# Altium footprint library Motor Controller.PcbLib: 24 footprints (part 1 of 2)
Each footprint in its own frame and in the unit in brackets; x right, y up, seen from the top. Pads: shape width x height; smd on the part's side, far side on the other; paste and mask are expansions set on the pad; w line width, h text height; cw(c..) or ccw(c..) is an arc to the next point about the centre after c.
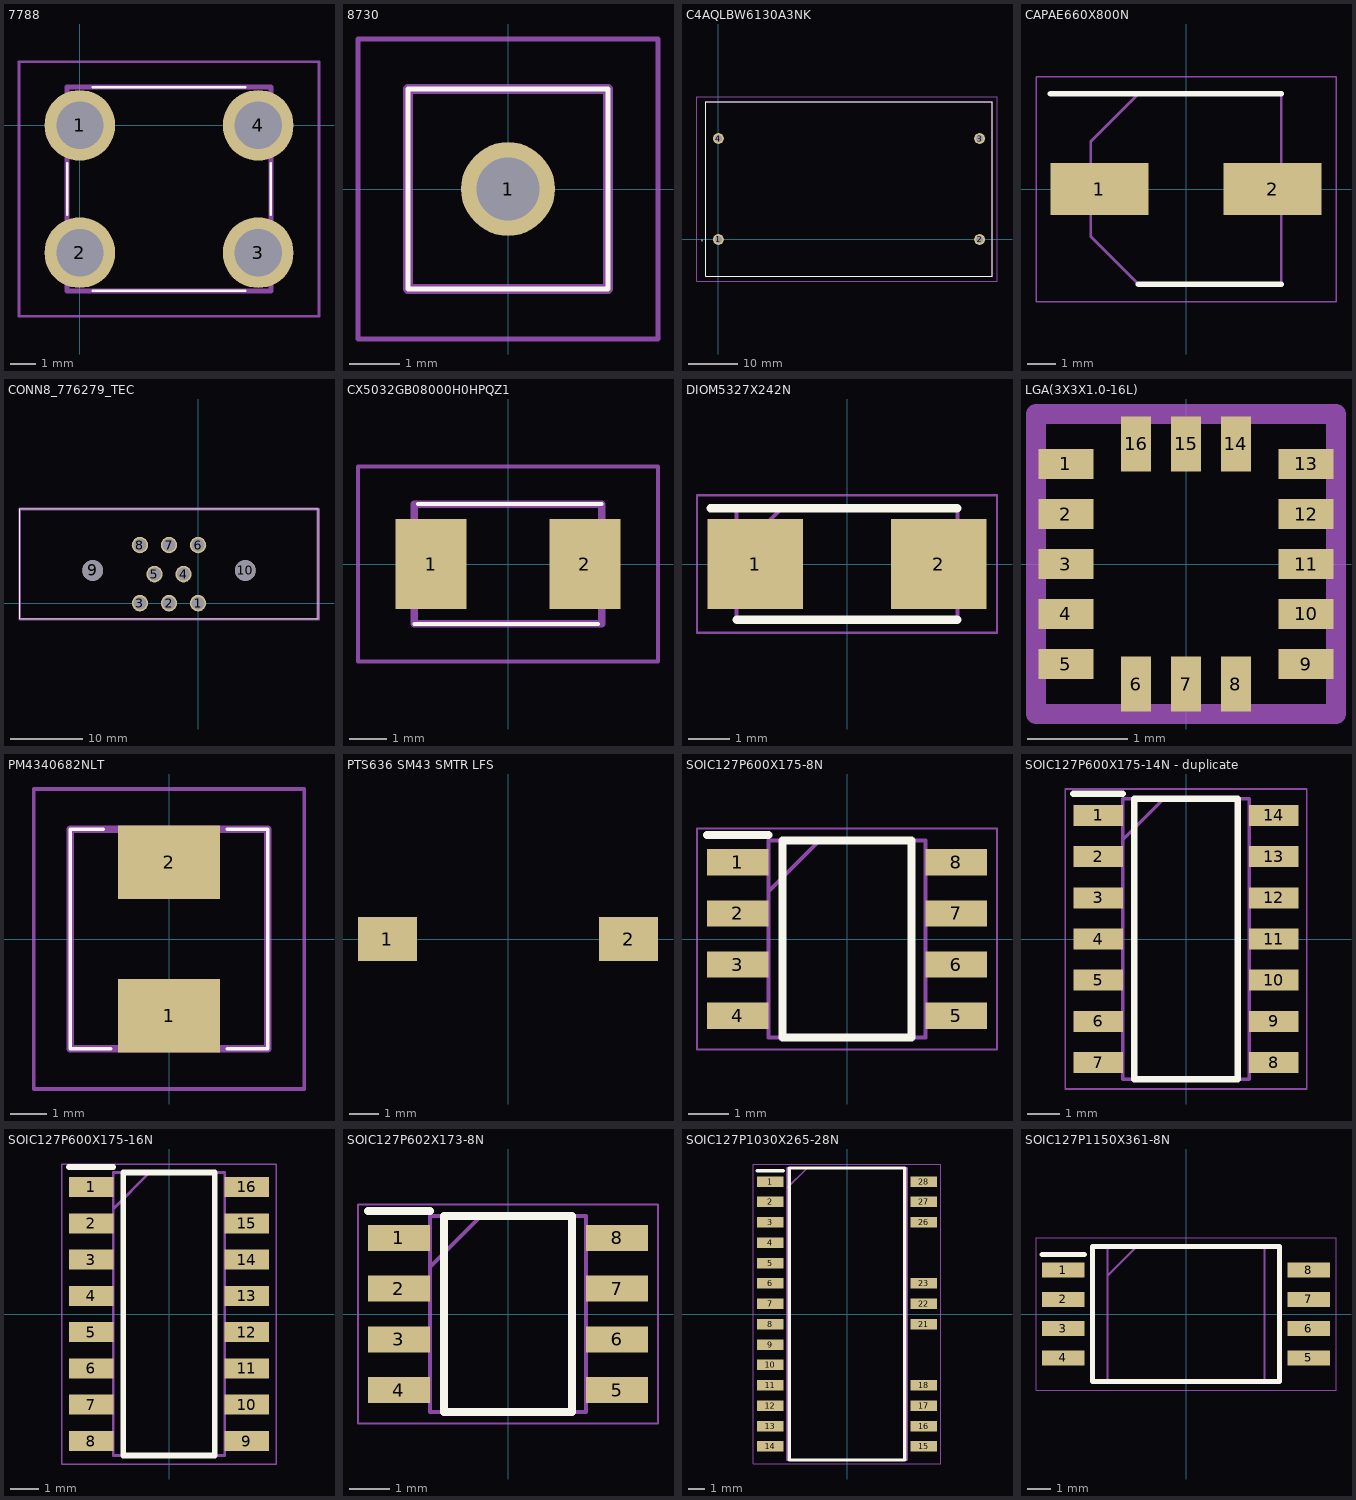
[diagram p0: the footprints below, top view; thin cyan lines are the x and y axes]

## 7788 [mm]
pads (4):
  round 2.775 hole 1.85: 1(0,0) 2(0,-5) 3(7,-5) 4(7,0)
Top Overlay:
  lines w0.1: -0.5,-3.5 -0.5,-1.5 ; 0.5,-6.5 6.5,-6.5 ; 0.5,1.5 6.5,1.5 ; 7.5,-3.5 7.5,-1.5
Mechanical 13:
  lines w0.2: -0.5,-6.5 -0.5,1.5 7.5,1.5 7.5,-6.5 -0.5,-6.5
Mechanical 15:
  lines w0.1: -2.388,-7.5 -2.388,2.5 9.387,2.5 9.387,-7.5 -2.388,-7.5
3D body "7788.stp": height 6.55, standoff -5, extent -0.818,-6.5 7.825,1.5

## 8730 [mm]
pads (1):
  round 1.875 hole 1.25: 1(0,0)
Top Overlay:
  lines w0.1: -2,-2 2,-2 2,2 -2,2 -2,-2
Mechanical 13:
  lines w0.2: -2,-2 2,-2 2,2 -2,2 -2,-2
Mechanical 15:
  lines w0.1: -3,-3 3,-3 3,3 -3,3 -3,-3
3D body "8730.stp": height 4.98, standoff -5, extent -2,-2 2,2

## C4AQLBW6130A3NK [mm]
pads (4):
  round 2.175 hole 1.45: 1(0,0) 2(52.5,0) 3(52.5,20.3) 4(0,20.3)
Top Overlay:
  lines w0.1: -2.5,-7.35 -2.5,27.65 55,27.65 55,-7.35 -2.5,-7.35
  lines w0.2: -3.25,-0.25 ccw(c-3.25,-0.2) -3.25,-0.15 ; -3.25,-0.25 cw(c-3.25,-0.2) -3.25,-0.15 ; -3.25,-0.25 ccw(c-3.25,-0.2) -3.25,-0.15
Mechanical 13:
  lines w0.2: -2.5,-7.35 -2.5,27.65 55,27.65 55,-7.35 -2.5,-7.35
Mechanical 15:
  lines w0.1: -4.3,-8.35 -4.3,28.65 56,28.65 56,-8.35 -4.3,-8.35
3D body "C4AQCBW5750A3NJ.stp": height 50.4, standoff -5, extent -2.5,-7.35 55,27.65

## CAPAE660X800N [mm]
pads (2):
  rect 3.4x1.8 smd: 1(-3,0) 2(3,0)
Top Overlay:
  lines w0.2: -4.7,3.3 3.3,3.3 ; -1.65,-3.3 3.3,-3.3
Mechanical 13:
  lines w0.1: -3.3,-1.65 -3.3,1.65 -1.65,3.3 3.3,3.3 3.3,-3.3 -1.65,-3.3 -3.3,-1.65
Mechanical 15:
  lines w0.05: -5.2,-3.9 5.2,-3.9 5.2,3.9 -5.2,3.9 -5.2,-3.9
3D body "EEE-1EA101XP.stp": height 8, standoff 0, extent -3.9,-3.4 3.9,3.4

## CONN8_776279_TEC [mil]
pads (10):
  round 89 hole 69 mask+0: 1(0,0) 2(-157.48,0) 3(-314.96,0) 4(-78.74,157.48) 5(-236.22,157.48) 6(0,314.96) 7(-157.48,314.96) 8(-314.96,314.96)
  round 112 hole 112: 9(-570.87,177.17) 10(255.91,177.17)
Top Overlay:
  lines w6: -965.48,-85.43 -965.48,511.57 650.52,511.57 650.52,-85.43 -965.48,-85.43
Mechanical 13:
  lines w1: -617.98,506.57 303.02,506.57 ; -960.48,-80.43 -960.48,506.57 -558.98,506.57 244.02,506.57 645.52,506.57 645.52,-80.43 -960.48,-80.43
Mechanical 15:
  lines w6: -970.48,-90.43 655.52,-90.43
  lines w7: -970.48,514.52 -970,515 -565,515 245,515 651.04,515 655.52,510.52 655.52,-90.43 ; -970.24,-90.19 -970.24,514.76
3D body: height 10, standoff 0, extent 0,0 10,10

## CX5032GB08000H0HPQZ1 [mm]
pads (2):
  rect 1.9x2.4 smd: 1(-2.05,0) 2(2.05,0)
Top Overlay:
  lines w0.1: -2.5,-1.6 2.4,-1.6 ; -2.4,1.6 2.5,1.6
Mechanical 13:
  lines w0.2: -2.5,-1.6 2.5,-1.6 2.5,1.6 -2.5,1.6 -2.5,-1.6
Mechanical 15:
  lines w0.1: -4,-2.6 4,-2.6 4,2.6 -4,2.6 -4,-2.6
3D body "CX5032GB08000H0HPQZ1.stp": height 0, standoff 0, extent 0,0 0,0

## DIOM5327X242N [mm]
pads (2):
  rect 2.3x2.15 smd: 1(-2.2,0) 2(2.2,0)
Top Overlay:
  lines w0.2: -3.275,1.335 2.648,1.335 ; -2.648,-1.335 2.648,-1.335
Mechanical 13:
  lines w0.1: -2.648,0.26 -1.572,1.335 ; -2.648,-1.335 -2.648,1.335 2.648,1.335 2.648,-1.335 -2.648,-1.335
Mechanical 15:
  lines w0.05: -3.6,-1.65 -3.6,1.65 3.6,1.65 3.6,-1.65 -3.6,-1.65
3D body "1N4007.stp": height 2.42, standoff 0, extent -2.648,-1.335 2.648,1.335

## LGA(3X3X1.0-16L) [mm]
pads (16):
  rect 0.55x0.3 smd: 1(-1.2,1) 2(-1.2,0.5) 3(-1.2,0) 4(-1.2,-0.5) 5(-1.2,-1) 9(1.2,-1) 10(1.2,-0.5) 11(1.2,0) 12(1.2,0.5) 13(1.2,1)
  rect 0.3x0.55 smd: 6(-0.5,-1.2) 7(0,-1.2) 8(0.5,-1.2) 14(0.5,1.2) 15(0,1.2) 16(-0.5,1.2)
Mechanical 13:
  lines w0.2: -1.5,-1.5 1.5,-1.5 1.5,1.5 -1.5,1.5 -1.5,-1.5

## PM4340682NLT [mm]
pads (2):
  rect 2.8x2 smd: 1(0,-2.1) 2(0,2.1)
Top Overlay:
  lines w0.1: -1.8,3 -2.7,3 -2.7,-3 -1.6,-3 ; 1.6,-3 2.7,-3 2.7,3 1.6,3
Mechanical 13:
  lines w0.2: -2.7,-3 -2.7,3 2.7,3 2.7,-3 -2.7,-3
Mechanical 15:
  lines w0.1: -3.7,-4.1 -3.7,4.1 3.7,4.1 3.7,-4.1 -3.7,-4.1
3D body "PM4340.682NLT.stp": height 2.1, standoff 0, extent -2.7,-3 2.7,3

## PTS636 SM43 SMTR LFS [mm]
pads (2):
  rect 2x1.5 smd: 1(-4.1,0) 2(4.1,0)
3D body: height 0.25, standoff -2, extent 2.95,2.85 2.95,2.85
3D body: height 4.3, standoff 0, extent -3,-1.75 3,1.75

## SOIC127P600X175-8N [mm]
pads (8):
  rect 1.525x0.65 smd: 1(-2.712,1.905) 2(-2.712,0.635) 3(-2.712,-0.635) 4(-2.712,-1.905) 5(2.712,-1.905) 6(2.712,-0.635) 7(2.712,0.635) 8(2.712,1.905)
Top Overlay:
  lines w0.2: -3.475,2.58 -1.95,2.58 ; -1.6,-2.45 1.6,-2.45 1.6,2.45 -1.6,2.45 -1.6,-2.45
Mechanical 13:
  lines w0.1: -1.95,1.18 -0.68,2.45 ; -1.95,-2.45 1.95,-2.45 1.95,2.45 -1.95,2.45 -1.95,-2.45
Mechanical 15:
  lines w0.05: -3.725,-2.75 3.725,-2.75 3.725,2.75 -3.725,2.75 -3.725,-2.75
3D body "NE555DR.stp": height 1.75, standoff 0, extent -3,-2.45 3,2.45

## SOIC127P600X175-14N - duplicate [mm]
pads (14):
  rect 1.525x0.65 smd: 1(-2.712,3.81) 2(-2.712,2.54) 3(-2.712,1.27) 4(-2.712,0) 5(-2.712,-1.27) 6(-2.712,-2.54) 7(-2.712,-3.81) 8(2.712,-3.81) 9(2.712,-2.54) 10(2.712,-1.27) 11(2.712,0) 12(2.712,1.27) 13(2.712,2.54) 14(2.712,3.81)
Top Overlay:
  lines w0.2: -3.475,4.485 -1.95,4.485 ; -1.6,-4.325 -1.6,4.325 1.6,4.325 1.6,-4.325 -1.6,-4.325
Mechanical 13:
  lines w0.1: -1.95,3.055 -0.68,4.325 ; -1.95,-4.325 -1.95,4.325 1.95,4.325 1.95,-4.325 -1.95,-4.325
Mechanical 15:
  lines w0.05: -3.725,-4.625 -3.725,4.625 3.725,4.625 3.725,-4.625 -3.725,-4.625
3D body "LM324AMX_NOPB.stp": height 1.75, standoff 0, extent -3,-4.325 3,4.325

## SOIC127P600X175-16N [mm]
pads (16):
  rect 1.55x0.7 smd: 1(-2.725,4.445) 2(-2.725,3.175) 3(-2.725,1.905) 4(-2.725,0.635) 5(-2.725,-0.635) 6(-2.725,-1.905) 7(-2.725,-3.175) 8(-2.725,-4.445) 9(2.725,-4.445) 10(2.725,-3.175) 11(2.725,-1.905) 12(2.725,-0.635) 13(2.725,0.635) 14(2.725,1.905) 15(2.725,3.175) 16(2.725,4.445)
Top Overlay:
  lines w0.2: -3.5,5.145 -1.95,5.145 ; -1.6,-4.95 1.6,-4.95 1.6,4.95 -1.6,4.95 -1.6,-4.95
Mechanical 13:
  lines w0.1: -1.95,3.68 -0.68,4.95 ; -1.95,-4.95 1.95,-4.95 1.95,4.95 -1.95,4.95 -1.95,-4.95
Mechanical 15:
  lines w0.05: -3.75,-5.25 3.75,-5.25 3.75,5.25 -3.75,5.25 -3.75,-5.25
3D body "74HC151D.stp": height 1.75, standoff 0, extent -3,-4.95 3,4.95

## SOIC127P602X173-8N [mm]
pads (8):
  rect 1.55x0.65 smd: 1(-2.725,1.905) 2(-2.725,0.635) 3(-2.725,-0.635) 4(-2.725,-1.905) 5(2.725,-1.905) 6(2.725,-0.635) 7(2.725,0.635) 8(2.725,1.905)
Top Overlay:
  lines w0.2: -3.5,2.58 -1.95,2.58 ; -1.6,-2.445 -1.6,2.445 1.6,2.445 1.6,-2.445 -1.6,-2.445
Mechanical 13:
  lines w0.1: -1.95,1.175 -0.68,2.445 ; -1.95,-2.445 -1.95,2.445 1.95,2.445 1.95,-2.445 -1.95,-2.445
Mechanical 15:
  lines w0.05: -3.75,-2.74 -3.75,2.74 3.75,2.74 3.75,-2.74 -3.75,-2.74
3D body "MLX91205KDC-AAL-003-TU.stp": height 1.73, standoff 0, extent -3.01,-2.445 3.01,2.445

## SOIC127P1030X265-28N [mm]
pads (24):
  rect 1.65x0.65 smd: 1(-4.775,8.255) 2(-4.775,6.985) 3(-4.775,5.715) 4(-4.775,4.445) 5(-4.775,3.175) 6(-4.775,1.905) 7(-4.775,0.635) 8(-4.775,-0.635) 9(-4.775,-1.905) 10(-4.775,-3.175) 11(-4.775,-4.445) 12(-4.775,-5.715) 13(-4.775,-6.985) 14(-4.775,-8.255) 15(4.775,-8.255) 16(4.775,-6.985) 17(4.775,-5.715) 18(4.775,-4.445) 21(4.775,-0.635) 22(4.775,0.635) 23(4.775,1.905) 26(4.775,5.715) 27(4.775,6.985) 28(4.775,8.255)
Top Overlay:
  lines w0.2: -5.6,8.93 -3.95,8.93 ; -3.6,-9.1 3.6,-9.1 3.6,9.1 -3.6,9.1 -3.6,-9.1
Mechanical 13:
  lines w0.1: -3.75,7.83 -2.48,9.1 ; -3.75,-9.1 3.75,-9.1 3.75,9.1 -3.75,9.1 -3.75,-9.1
Mechanical 15:
  lines w0.05: -5.85,-9.35 5.85,-9.35 5.85,9.35 -5.85,9.35 -5.85,-9.35
3D body "6ED2230S12TXUMA1.stp": height 2.65, standoff 0, extent -5.15,-9.1 5.15,9.1

## SOIC127P1150X361-8N [mm]
pads (8):
  rect 1.85x0.65 smd: 1(-5.325,1.905) 2(-5.325,0.635) 3(-5.325,-0.635) 4(-5.325,-1.905) 5(5.325,-1.905) 6(5.325,-0.635) 7(5.325,0.635) 8(5.325,1.905)
Top Overlay:
  lines w0.2: -6.25,2.58 -4.4,2.58 ; -4.05,-2.925 4.05,-2.925 4.05,2.925 -4.05,2.925 -4.05,-2.925
Mechanical 13:
  lines w0.1: -3.404,1.655 -2.134,2.925 ; -3.404,-2.925 3.404,-2.925 3.404,2.925 -3.404,2.925 -3.404,-2.925
Mechanical 15:
  lines w0.05: -6.5,-3.302 6.5,-3.302 6.5,3.302 -6.5,3.302 -6.5,-3.302
3D body "ACPL-C87A-500E.stp": height 3.61, standoff 0, extent -5.75,-2.925 5.75,2.925